# Altium integrated library roundsolutions.IntLib: 2 symbols
Pins are listed as number, name and electrical type; pins without a type are passive.

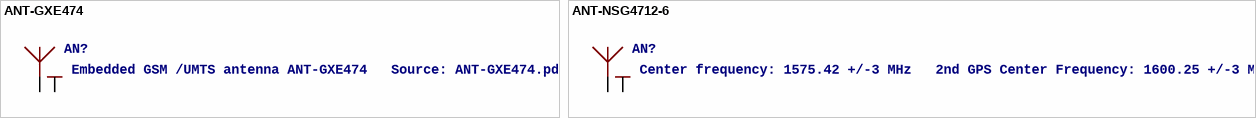
[diagram p0: symbols ANT-GXE474 to ANT-NSG4712-6]

## ANT-GXE474
designator AN?, comment Embedded GSM /UMTS antenna ANT-GXE474   Source: ANT-GXE474.pdf
footprint ANT-GXE474
pins: 1 G, 2 ANT

## ANT-NSG4712-6
designator AN?, comment Center frequency: 1575.42 +/-3 MHz   2nd GPS Center Frequency: 1600.25 +/-3 MHz
footprint ANT-NSG4712-6
pins: A ANT, G@1 G@2 G@3 G@4 G@5 G@6 G@7 G@8 G@9 G@10 G